# Altium footprint library RT_SUPER__MK76__A.PcbLib: 27 footprints (part 2 of 2)
Each footprint in its own frame and in the unit in brackets; x right, y up, seen from the top. Pads: shape width x height; smd on the part's side, far side on the other; paste and mask are expansions set on the pad; w line width, h text height; cw(c..) or ccw(c..) is an arc to the next point about the centre after c.
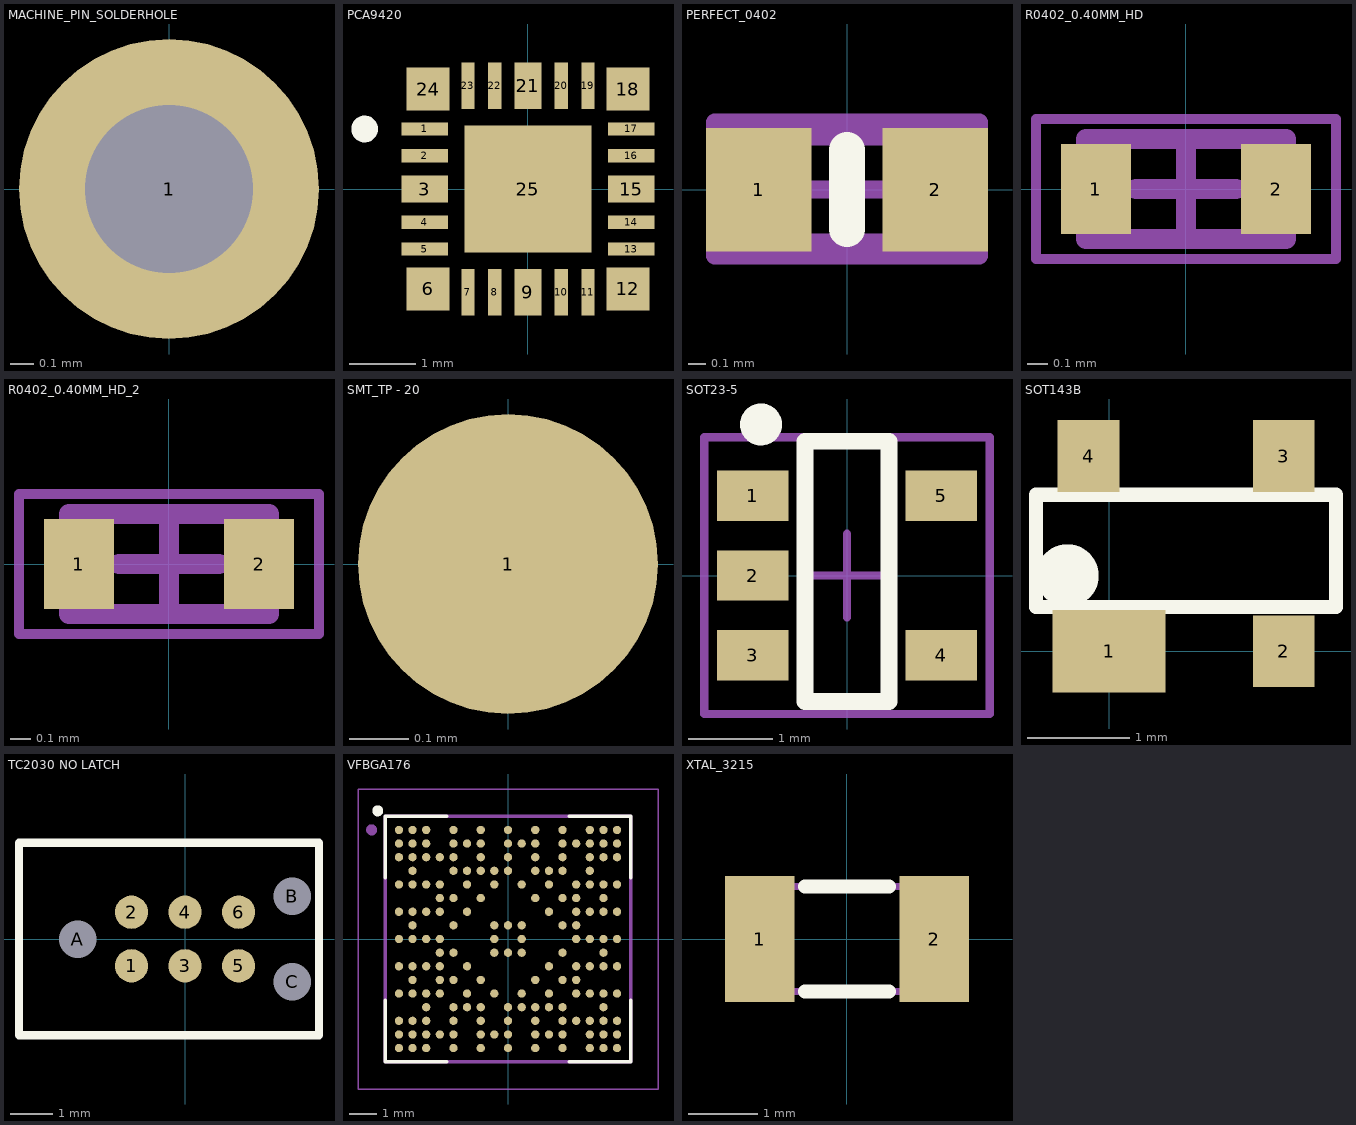
[diagram p1: the footprints below, top view; thin cyan lines are the x and y axes]

## MACHINE_PIN_SOLDERHOLE [mil]
pads (1):
  round 50 hole 28: 1(0,0)
3D body "mill-max-5421-0-00-15-00-00-03-0.step": height 173.5, standoff -99.5, extent -20,-20 20,20

## PCA9420 [mm]
pads (25):
  rect 0.7x0.2 smd mask+0.051: 1(-1.55,0.9) 2(-1.55,0.5) 4(-1.55,-0.5) 5(-1.55,-0.9) 13(1.55,-0.9) 14(1.55,-0.5) 16(1.55,0.5) 17(1.55,0.9)
  rect 0.7x0.4 smd mask+0.051: 3(-1.55,0) 15(1.55,0)
  rect 0.65x0.65 smd mask+0.051: 6(-1.5,-1.5) 12(1.5,-1.5) 18(1.5,1.5) 24(-1.5,1.5)
  rect 0.2x0.7 smd mask+0.051: 7(-0.9,-1.55) 8(-0.5,-1.55) 10(0.5,-1.55) 11(0.9,-1.55) 19(0.9,1.55) 20(0.5,1.55) 22(-0.5,1.55) 23(-0.9,1.55)
  rect 0.4x0.7 smd mask+0.051: 9(0,-1.55) 21(0,1.55)
  rect 1.9x1.9 smd mask+0.051: 25(0,0)
Top Overlay:
  circle w0.2: c-2.45,0.9 r0.1
Top Paste:
  region: 0.132,0.818 0.818,0.818 0.818,0.132 0.132,0.132
  region: -0.818,-0.132 -0.132,-0.132 -0.132,-0.818 -0.818,-0.818
  region: -0.818,0.818 -0.132,0.818 -0.132,0.132 -0.818,0.132
  region: 0.132,-0.132 0.818,-0.132 0.818,-0.818 0.132,-0.818
Top Solder:
  region: 0.75,-1.15 1.05,-1.15 1.05,-1.95 0.75,-1.95
  region: 0.35,-1.15 0.65,-1.15 0.65,-1.95 0.35,-1.95
  region: -0.25,-1.15 0.25,-1.15 0.25,-1.95 -0.25,-1.95
  region: -0.65,-1.15 -0.35,-1.15 -0.35,-1.95 -0.65,-1.95
  region: -1.05,-1.15 -0.75,-1.15 -0.75,-1.95 -1.05,-1.95
  region: -0.25,1.95 0.25,1.95 0.25,1.15 -0.25,1.15
  region: 0.35,1.95 0.65,1.95 0.65,1.15 0.35,1.15
  region: -0.65,1.95 -0.35,1.95 -0.35,1.15 -0.65,1.15
  region: 0.75,1.95 1.05,1.95 1.05,1.15 0.75,1.15
  region: -1.05,1.95 -0.75,1.95 -0.75,1.15 -1.05,1.15
  region: 1.15,0.25 1.95,0.25 1.95,-0.25 1.15,-0.25
  region: 1.15,-0.75 1.95,-0.75 1.95,-1.05 1.15,-1.05
  region: 1.15,-0.35 1.95,-0.35 1.95,-0.65 1.15,-0.65
  region: 1.15,0.65 1.95,0.65 1.95,0.35 1.15,0.35
  region: 1.15,1.05 1.95,1.05 1.95,0.75 1.15,0.75
  region: -1.95,1.05 -1.15,1.05 -1.15,0.75 -1.95,0.75
  region: -1.95,1.05 -1.15,1.05 -1.15,0.75 -1.95,0.75
  region: -1.95,1.05 -1.15,1.05 -1.15,0.75 -1.95,0.75
  region: -1.95,0.65 -1.15,0.65 -1.15,0.35 -1.95,0.35
  region: -1.95,-0.75 -1.15,-0.75 -1.15,-1.05 -1.95,-1.05
  region: -1.95,-0.35 -1.15,-0.35 -1.15,-0.65 -1.95,-0.65
  region: -1.95,0.25 -1.15,0.25 -1.15,-0.25 -1.95,-0.25
  region: -1,1 1,1 1,-1 -1,-1
3D body: height 1, standoff 0.05, extent -1.5,-1.5 1.5,1.5

## PERFECT_0402 [mm] "https://www.worthingtonassembly.com/perfect-0402-footprint"
height 2.77
pads (2):
  rect 0.6x0.7 smd: 1(-0.5,0) 2(0.5,0)
Top Overlay:
  lines w0.203: 0,-0.225 0,0.225
Mechanical 13:
  lines w0.1: -0.55,-0.3 -0.55,0.3 0.55,0.3 0.55,-0.3 -0.55,-0.3
Mechanical 15:
  lines w0.1: -0.3,0 0.3,0 ; 0,-0.3 0,0.3 ; -0.75,-0.375 -0.75,0.381 0.75,0.381 0.75,-0.375 -0.75,-0.375
3D body "User Library-cap_0402.step": height 0.5, standoff 0, extent -0.5,-0.25 0.5,0.25

## R0402_0.40MM_HD [mm] "Resistor 0402 High Density"
height 0.4
pads (2):
  rect 0.35x0.45 smd: 1(-0.45,0) 2(0.45,0)
Mechanical 13:
  lines w0.1: -0.5,-0.25 -0.5,0.25 0.5,0.25 0.5,-0.25 -0.5,-0.25
Mechanical 15:
  lines w0.05: -0.75,-0.35 -0.75,0.35 0.75,0.35 0.75,-0.35 -0.75,-0.35
  lines w0.1: -0.25,0 0.25,0 ; 0,-0.25 0,0.25
3D body "RESC1005X04L.step": height 0.4, standoff 0, extent -0.5,-0.25 0.5,0.25

## R0402_0.40MM_HD_2 [mm]
pads (2):
  rect 0.35x0.45 smd: 1(-0.45,0) 2(0.45,0)
Mechanical 13:
  lines w0.1: -0.5,-0.25 -0.5,0.25 0.5,0.25 0.5,-0.25 -0.5,-0.25
Mechanical 15:
  lines w0.05: -0.75,-0.35 -0.75,0.35 0.75,0.35 0.75,-0.35 -0.75,-0.35
  lines w0.1: -0.25,0 0.25,0 ; 0,-0.25 0,0.25
3D body "RESC1005X04L.step": height 0.4, standoff 0, extent -0.5,-0.25 0.5,0.25

## SMT_TP - 20 [mil] ".020\" SMT Test pad"
pads (1):
  round 20 smd paste-25: 1(0,0)

## SOT23-5 [mm] "SOT23, 5-Leads, Body 3.1x2.6mm (max), Pitch 0.95mm, IPC High Density"
height 1.45
pads (5):
  rect 0.85x0.6 smd: 1(-1.125,0.95) 2(-1.125,0) 3(-1.125,-0.95) 4(1.125,-0.95) 5(1.125,0.95)
Top Overlay:
  circle w0.25: c-1.025,1.8 r0.125
  lines w0.2: -0.5,-1.5 -0.5,1.6 0.5,1.6 0.5,-1.5 -0.5,-1.5
Mechanical 15:
  lines w0.1: -0.5,0 0.5,0 ; 0,-0.5 0,0.5 ; -1.7,-1.65 1.7,-1.65 1.7,1.65 -1.7,1.65 -1.7,-1.65
3D body "ct-sot-23-5.stp": height 1.15, standoff -0.03, extent -1.379,-1.45 1.321,1.45

## SOT143B [mm] "SOT143B"
height 1.1
pads (4):
  rect 1.1x0.8 smd: 1(0,0)
  rect 0.6x0.7 smd: 2(1.702,0) 3(1.702,1.9) 4(-0.2,1.9)
Top Overlay:
  circle w0.508: c-0.406,0.737 r0.051
  lines w0.14: -0.711,0.432 2.21,0.432 2.21,1.524 -0.711,1.524 -0.711,0.432
3D body "User Library-sot143.step": height 1, standoff 0, extent -0.698,-0.27 2.222,2.15

## TC2030 NO LATCH [mil] "TC2030  NO LATCH"
pads (9):
  round 31 smd paste-40: 1(-50,-25) 2(-50,25) 3(0,-25) 4(0,25) 5(50,-25) 6(50,25)
  round 34 hole 35 unplated: A(-100,0) B(100,40) C(100,-40)
Top Overlay:
  lines w7.87: -155,-90 125,-90 125,90 -155,90 -155,-90

## VFBGA176 [mil]
height 62.99
pads (176):
  round 12 smd paste+0 mask+0: A1(-157.48,157.48) A2(-137.8,157.48) A3(-118.11,157.48) A5(-78.74,157.48) A7(-39.37,157.48) A9(0,157.48) A11(39.37,157.48) A13(78.74,157.48) A15(118.11,157.48) A16(137.8,157.48) A17(157.48,157.48) B1(-157.48,137.8) B2(-137.8,137.8) B3(-118.11,137.8) B5(-78.74,137.8) B6(-59.06,137.8) B7(-39.37,137.8) B9(0,137.8) B10(19.68,137.8) B11(39.37,137.8) B13(78.74,137.8) B14(98.43,137.8) B15(118.11,137.8) B16(137.8,137.8) B17(157.48,137.8) C1(-157.48,118.11) C2(-137.8,118.11) C3(-118.11,118.11) C4(-98.43,118.11) C5(-78.74,118.11) C7(-39.37,118.11) C9(0,118.11) C11(39.37,118.11) C13(78.74,118.11) C15(118.11,118.11) C16(137.8,118.11) C17(157.48,118.11) D2(-137.8,98.43) D5(-78.74,98.43) D6(-59.06,98.43) D7(-39.37,98.43) D8(-19.68,98.43) D9(0,98.43) D11(39.37,98.43) D12(59.06,98.43) D13(78.74,98.43) D15(118.11,98.43) E1(-157.48,78.74) E2(-137.8,78.74) E3(-118.11,78.74) E4(-98.43,78.74) E6(-59.06,78.74) E8(-19.68,78.74) E10(19.68,78.74) E12(59.06,78.74) E14(98.43,78.74) E15(118.11,78.74) E16(137.8,78.74) E17(157.48,78.74) F4(-98.43,59.06) F5(-78.74,59.06) F7(-39.37,59.06) F11(39.37,59.06) F13(78.74,59.06) F14(98.43,59.06) F16(137.8,59.06) G1(-157.48,39.37) G2(-137.8,39.37) G3(-118.11,39.37) G4(-98.43,39.37) G6(-59.06,39.37) G12(59.06,39.37) G14(98.43,39.37) G15(118.11,39.37) G16(137.8,39.37) G17(157.48,39.37) H2(-137.8,19.68) H5(-78.74,19.68) H8(-19.68,19.68) H9(0,19.68) H10(19.68,19.68) H13(78.74,19.68) H14(98.43,19.68) J1(-157.48,0) J2(-137.8,0) J3(-118.11,0) J4(-98.43,0) J8(-19.68,0) J10(19.68,0) J14(98.43,0) J15(118.11,0) J16(137.8,0) J17(157.48,0) K4(-98.43,-19.68) K5(-78.74,-19.68) K8(-19.68,-19.68) K9(0,-19.68) K10(19.68,-19.68) K13(78.74,-19.68) K16(137.8,-19.68) L1(-157.48,-39.37) L2(-137.8,-39.37) L3(-118.11,-39.37) L4(-98.43,-39.37) L6(-59.06,-39.37) L12(59.06,-39.37) L14(98.43,-39.37) L15(118.11,-39.37) L16(137.8,-39.37) L17(157.48,-39.37) M2(-137.8,-59.06) M4(-98.43,-59.06) M5(-78.74,-59.06) M7(-39.37,-59.06) M11(39.37,-59.06) M13(78.74,-59.06) M14(98.43,-59.06) N1(-157.48,-78.74) N2(-137.8,-78.74) N3(-118.11,-78.74) N4(-98.43,-78.74) N6(-59.06,-78.74) N8(-19.68,-78.74) N10(19.68,-78.74) N12(59.06,-78.74) N14(98.43,-78.74) N15(118.11,-78.74) N16(137.8,-78.74) N17(157.48,-78.74) P3(-118.11,-98.43) P5(-78.74,-98.43) P6(-59.06,-98.43) P7(-39.37,-98.43) P9(0,-98.43) P10(19.68,-98.43) P11(39.37,-98.43) P12(59.06,-98.43) P13(78.74,-98.43) P16(137.8,-98.43) R1(-157.48,-118.11) R2(-137.8,-118.11) R3(-118.11,-118.11) R5(-78.74,-118.11) R7(-39.37,-118.11) R9(0,-118.11) R11(39.37,-118.11) R13(78.74,-118.11) R14(98.43,-118.11) R15(118.11,-118.11) R16(137.8,-118.11) R17(157.48,-118.11) T1(-157.48,-137.8) T2(-137.8,-137.8) T3(-118.11,-137.8) T4(-98.43,-137.8) T5(-78.74,-137.8) T7(-39.37,-137.8) T8(-19.68,-137.8) T9(0,-137.8) T11(39.37,-137.8) T12(59.06,-137.8) T13(78.74,-137.8) T15(118.11,-137.8) T16(137.8,-137.8) T17(157.48,-137.8) U1(-157.48,-157.48) U2(-137.8,-157.48) U3(-118.11,-157.48) U5(-78.74,-157.48) U7(-39.37,-157.48) U9(0,-157.48) U11(39.37,-157.48) U13(78.74,-157.48) U15(118.11,-157.48) U16(137.8,-157.48) U17(157.48,-157.48)
Top Overlay:
  circle w7.87: c-188,185 r3.94
  lines w5: -177.17,-88.58 -177.17,-177.17 -88.58,-177.17 ; -177.17,88.58 -177.17,177.17 -88.58,177.17 ; 88.58,-177.17 177.17,-177.17 177.17,-88.58 ; 88.58,177.17 177.17,177.17 177.17,88.58
Mechanical 13:
  circle w7.87: c-196.85,157.48 r3.94
  lines w5: -177.17,-177.17 177.17,-177.17 177.17,177.17 -177.17,177.17 -177.17,-177.17
Mechanical 15:
  lines w1.97: -216.54,-216.54 216.54,-216.54 216.54,216.54 -216.54,216.54 -216.54,-216.54
3D body: height 33.86, standoff 0.39, extent -177.17,-177.17 177.17,177.17

## XTAL_3215 [mm] "XTAL SMD 3.2 x 1.5 mm"
height 0.8
pads (2):
  rect 1x1.8 smd: 1(-1.25,0) 2(1.25,0)
Top Overlay:
  lines w0.2: -0.6,-0.75 0.6,-0.75 ; -0.6,0.75 0.6,0.75
Mechanical 7:
  lines w0.1: -1.6,-0.75 -1.6,0.75 1.6,0.75 1.6,-0.75 -1.6,-0.75
Mechanical 15:
  lines w0.1: -1.6,-0.55 cw(c-1.6,-0.75) -1.4,-0.75 1.4,-0.75 cw(c1.6,-0.75) 1.6,-0.55 1.6,0.55 cw(c1.6,0.75) 1.4,0.75 -1.4,0.75 cw(c-1.6,0.75) -1.6,0.55 -1.6,-0.55
3D body: height 0.81, standoff 0.15, extent -1.2,-0.6 1.2,0.6
3D body "User Library-Siward_SX3215.step": height 0.81, standoff 0, extent -1.6,-0.75 1.6,0.75